# EAGLE library part ACS711 (library mestrado)
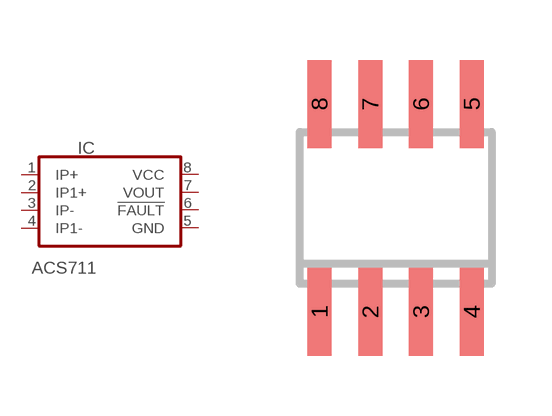
[diagram p2: symbol with the pads of SO8; footprint SO8]

Designator prefix IC

## ACS711ELCTR-25AB-T (CORRENTE: 25A)  [SO8]
1  IP+
2  IP1+
3  IP-
4  IP1-
5  GND
6  !FAULT
7  VOUT
8  VCC

## ACS711ELCTR-31AB-T (CORRENTE: 31A)  [SO8]
Pads as for SO8

## ACS711ELCTR-12AB-T  [SO8]
Pads as for SO8

## ACS711ELCTR-15AB-T  [SO8]
Pads as for SO8

## Footprint SO8 (pad centres in mm)
8-Lead Small Outline IC (SO-8) Source: http://www.analog.com/UploadedFiles/Data_Sheets/703465986AD8611_2_0.pdf
smd 0.6 x 2.2: 1 -1.905,-2.6; 2 -0.635,-2.6; 3 0.635,-2.6; 4 1.905,-2.6; 5 1.905,2.6; 6 0.635,2.6; 7 -0.635,2.6; 8 -1.905,2.6